# Altium schematic symbol library power_supply.SCHLIB: 21 symbols
Pins are listed as number, name and electrical type; pins without a type are passive.

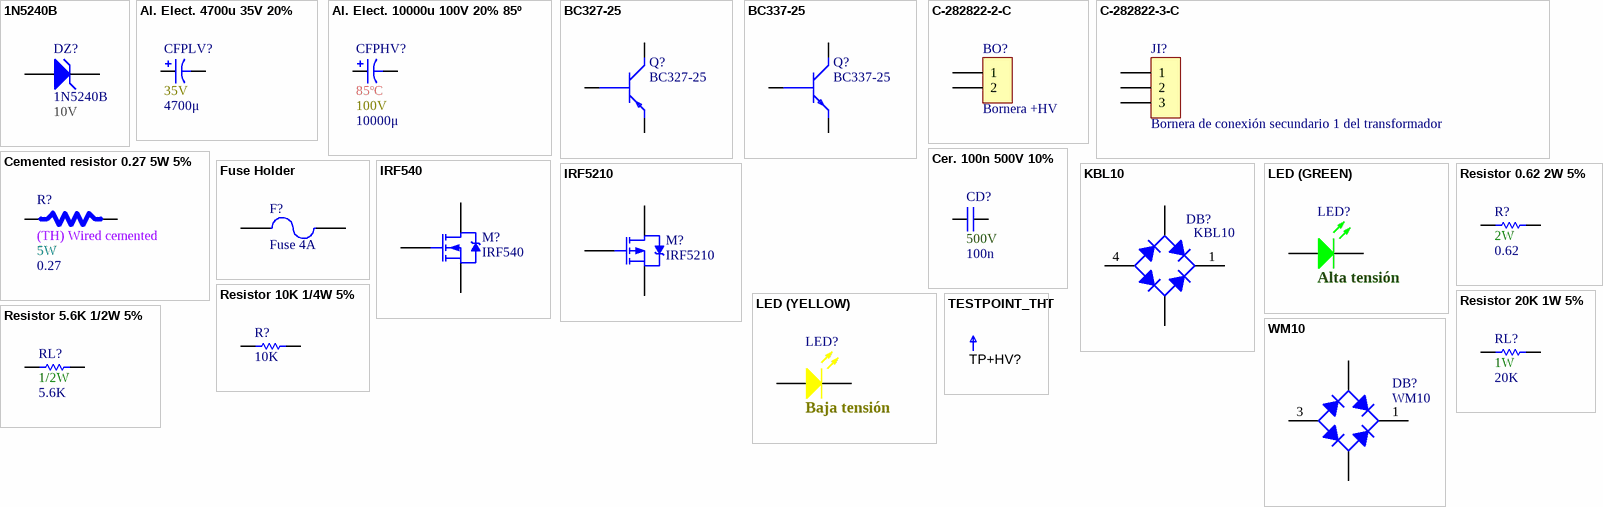
[diagram p0: symbols 1N5240B to WM10]

## 1N5240B
designator DZ?  ZV: 10V
Zener Diode, 10V, 500mW; Manufacturer: Microsemi; IZT: 20mA; Published: 8-Jun-2000; LatestRevisionDate: 17-Jul-2002; LatestRevisionNote: Re-released for DXP Platform.; DatasheetDocument: 1997; PackageReference: DO-35; Publisher: Altium Limited; Code_JEDEC: DO-204-AH; ComponentLink2Description: Datasheet; ComponentLink2URL: https://www.microsemi.com/document-portal/doc_download/5906-1n746-759a-4370-4372a-datasheet; PartNumber: 1N5240B; Power: 500mW; Supplier: *; Price: *; ComponentLink3Description: Microsemi product information; ComponentLink3URL: https://www.microsemi.com/existing-parts/parts/121290#resources
footprint DO-35-0.3mil (Diode, Axial; Body 3.8 x 1.9 mm (LxDia. max), Lead Dia. 0.53 mm (max))
pins: 1 A, 2 K

## Al. Elect. 4700u 35V 20%
designator CFPLV?  value 4700μ  Voltage: 35V  (hidden comment: Al. Elect. 4700u 35V 20%)
Aluminum Electrolytic Capacitor 4700μF 35V 20%; Application: Medium and high voltage type range from 160V-450V used as primary side input filter in power supply, which can be used in general switching power supply, PC power supply and industrial computer power supply,server power supply, AC-DC converter, motor drive circuit DC storage filter, digital audio, digital TV, communication base station, DC-AC inverter, inverter power supply and converters etc; Characteristics: Aluminum Electrolytic Capacitor; Tolerance: 20%; Supplier: *; Price: *; Power: *; Temperature: *
footprint Al. Electrolytic 18.0mmx36.0mmx7.5mm (Polarized capacitors, Aluminum Electrolytic Capacitors, 2-Leads, Body 18.0mmx36.0mmx7.5mm)
pins: 1, 2

## Al. Elect. 10000u 100V 20% 85º
designator CFPHV?  value 10000μ  Temperature: 85ºC  Voltage: 100V  (hidden comment: Al. Elect. 10000u 100V 20% 85º)
Aluminum Electrolytic Capacitor 10000μF 100V 20% 85º; Application: Medium and high voltage type range from 160V-450V used as primary side input filter in power supply, which can be used in general switching power supply, PC power supply and industrial computer power supply,server power supply, AC-DC converter, motor drive circuit DC storage filter, digital audio, digital TV, communication base station, DC-AC inverter, inverter power supply and converters etc; Characteristics: Aluminum Electrolytic Capacitor; Tolerance: 20%; Price: *; Supplier: *; Power: *
footprint Al. Electrolytic 35.0mmx50.0mmx10mm-CLEAN (Polarized capacitors, Aluminum Electrolytic Capacitors, 2-Leads, Body 35.0mmx50.0mmx10mm)
pins: 1, 2

## BC327-25
designator Q?
PNP Bipolar Transistor; Manufacturer: ON Semiconductor; PartNumber: MJE340G; VCEO: 300V; IC: 500mA; Power: 20W; ComponentLink1Description: ON semiconductor product information; ComponentLink1URL: https://www.onsemi.com/PowerSolutions/product.do?id=BC327-25; ComponentLink2Description: Datasheet; ComponentLink2URL: https://www.onsemi.com/pub/Collateral/BC327-D.PDF; Price: *; Supplier: *; VCB: 300V
footprint TO-92-1 (TO, Flat Index; 3 In-Line, Axial Leads; Body Dia. 5mm; Leads 0.55 x 0.50 mm (max))
footprint TO-92-2
pins: 1 C, 2 B, 3 E

## BC337-25
designator Q?
NPN Bipolar Transistor; Manufacturer: ON Semiconductor; PartNumber: MJE340G; VCEO: 300V; IC: 500mA; Power: 20W; ComponentLink1Description: ON semiconductor product information; ComponentLink1URL: https://www.onsemi.com/PowerSolutions/product.do?id=BC337-25; ComponentLink2Description: Datasheet; ComponentLink2URL: https://www.onsemi.com/pub/Collateral/BC337-D.PDF; Price: *; Supplier: *; VCB: 300V
footprint TO-92-1 (TO, Flat Index; 3 In-Line, Axial Leads; Body Dia. 5mm; Leads 0.55 x 0.50 mm (max))
footprint TO-92-2
pins: 1 C, 2 B, 3 E

## C-282822-2-C
designator BO?, comment Bornera +HV
TERMI-BLOK HEADER,ASSY90 2P - serie 282822 - 5.00mm; Manufacturer: TE Connectivity; partNo: C-282822-2-C; ComponentLink1 Description: Manufacturer; ComponentLink2 Description: Datasheet; NoPins: 02; Created Date: 6 MArch 2017; ComponentLink1URL: http://www.te.com/usa-en/home.html; ComponentLink2URL: http://www.te.com/usa-en/product-282822-2.html
footprint TE-C-282822-2-C-PLUGGED (5.00mm - Open Vertical PCB Header - 02p)
footprint TE-C-282822-2-C (5.00mm - Open Vertical PCB Header - 02p)
pins: 1 (power), 2

## C-282822-3-C
designator JI?, comment Bornera de conexión secundario 1 del transformador
TERMI-BLOK HEADER,ASSY90 3P - serie 282822 - 5.00mm; Manufacturer: TE Connectivity; partNo: C-282822-3-C; ComponentLink1 Description: Manufacturer; ComponentLink2 Description: Datasheet; NoPins: 03; Created Date: 6 MArch 2017; ComponentLink1URL: http://www.te.com/usa-en/home.html; ComponentLink2URL: http://www.te.com/usa-en/product-282822-3.html
footprint TE-C-282822-3-C-PLUGGED (5.00mm - Open Vertical PCB Header - 03p)
footprint TE-C-282822-3-C (5.00mm - Open Vertical PCB Header - 03p)
pins: 1, 2, 3

## Cemented resistor 0.27 5W 5%
designator R?  value 0.27  Type: (TH) Wired cemented  Power: 5W  (hidden comment: Cemented resistor 0.27 5W 5%)
Cemented resistor 0.27Ω 5% 5W; Tolerance: 5%; Supplier: *; Price: *
footprint Cemented resistor 0.27 5W 5% (Cemented resistor 0.27O 5% 5W)
footprint Cemented resistor generic 5W 5% (Cemented generic resistor 5% 5W)
pins: 1, 2

## Cer. 100n 500V 10%
designator CD?  value 100n  Voltage: 500V  (hidden comment: Cer. 100n 500V 10%)
Ceramic Capacitor 100nF 500V 10%; Application: Medium and high voltage type range from 160V-450V used as primary side input filter in power supply, which can be used in general switching power supply, PC power supply and industrial computer power supply,server power supply, AC-DC converter, motor drive circuit DC storage filter, digital audio, digital TV, communication base station, DC-AC inverter, inverter power supply and converters etc; Characteristics: Ceramic Capacitor; Tolerance: 10%; Supplier: *; Price: *; Power: *
footprint Cer. pitch 5.0mm height 5.5mm (Radial ceramic capacitor pitch 5.0mm height 5.5mm)
footprint Cer. pitch 2.5mm height 5.0mm (Radial ceramic capacitor pitch 2.5mm height 5.0mm)
footprint Cer. pitch 5.08mm height 6.00mm (Radial ceramic capacitor pitch 5.08mm height 6.0mm)
pins: 1, 2

## Fuse Holder
designator F?, comment Fuse 4A
Fuse; PackageDescription: Thru-Hole; 2 Leads; Supplier: *; Price: *; Power: *; Value: *
simulation model FUSE (Spice Subcircuit)
footprint DINKLE FUSE HOLDER 5X20 (5.00mm - Open Vertical PCB Header - 02p)
pins: 1, 2

## IRF540
designator M?
N-CHANNEL Power MOSFET 100V - 20A -  0.077Ω; Vendor: Vishay; Supersection: Semiconductors; Section: Discretes; C: Copyright (C) 2015 Accelerated Designs. All rights reserved; Power: 150; Manufacturer_Part_Number: IRF540; Family: MOSFET; Manufacturer_Name: Vishay; Copyright: Copyright (C) 2015 Accelerated Designs. All rights reserved; Value: Value; Supplier: *; Price: *
footprint TO-220-FULL (TO-220 FULL PACKAGE)
pins: 1 G, 2 D, 3 S

## IRF5210
designator M?
P-CHANNEL Power MOSFET 100V - 40A -  0.06Ω; Vendor: Infineon; Supersection: Semiconductors; Section: Discretes; C: Copyright (C) 2015 Accelerated Designs. All rights reserved; Power: 200W; Manufacturer_Part_Number: IRF5210; Family: MOSFET; Manufacturer_Name: Infineon; Copyright: Copyright (C) 2015 Accelerated Designs. All rights reserved; Value: Value; Supplier: *; Price: *
footprint TO-220-FULL (TO-220 FULL PACKAGE)
pins: 1 G, 2 D, 3 S

## KBL10
designator DB?
Single phase silicon bridge rectifier 1000V 4A; Voltage: 1000V; Current: 4A; Power: *; Price: *; Supplier: *; Value: *
footprint KBL
pins: 1 V+, 2 AC1, 3 AC2, 4 V-

## LED (GREEN)
designator LED?, comment Alta tensión
Typical LED (GREEN); Publisher: Altium Limited
footprint LED_5MM_GREEN (LED 5mm GREEN)
footprint LED_3MM_GREEN (LED 3mm GREEN)
footprint 0805_LED
footprint 1206_LED
footprint SQ_LED
pins: A, K

## LED (YELLOW)
designator LED?, comment Baja tensión
Typical LED (YELLOW); Publisher: Altium Limited
footprint LED_5MM_YELLOW (LED 5mm YELLOW)
footprint LED_3MM_YELLOW (LED 3mm YELLOW)
footprint 0805_LED
footprint 1206_LED
footprint SQ_LED
pins: A, K

## Resistor 0.62 2W 5%
designator R?  value 0.62  Power: 2W  (hidden comment: Resistor 0.62 2W 5%)
Resistor 0.62Ω 2W 5%; Tolerance: 5%; Price: *; Supplier: *; Type: (TH) Carbon film
footprint AXIAL-0.6-E24-2W-0.62 (Axial Device, Thru-Hole; 2 Leads; 0.6 in Pin Spacing)
pins: 1, 2

## Resistor 5.6K 1/2W 5%
designator RL?  value 5.6K  Power: 1/2W  (hidden comment: Resistor 5.6K 1/2W 5%)
Resistor 5.6KΩ 1/2W 5%; Tolerance: 5%; Price: *; Type: (TH) Metal film; Supplier: *
footprint AXIAL-0.4-GEN-0_25W (Axial Device, Thru-Hole; 2 Leads; 0.4 in Pin Spacing)
footprint AXIAL-0.3-GEN-0_25W (Axial Device, Thru-Hole; 2 Leads; 0.3 in Pin Spacing)
footprint AXIAL-0.5-GEN-0_25W (Axial Device, Thru-Hole; 2 Leads; 0.5 in Pin Spacing)
footprint AXIAL-0.6-GEN-0_25W (Axial Device, Thru-Hole; 2 Leads; 0.6 in Pin Spacing)
footprint AXIAL-0.5-E24-0_5W-5.6K (Axial Device, Thru-Hole; 2 Leads; 0.5 in Pin Spacing)
pins: 1, 2

## Resistor 10K 1/4W 5%
designator R?  value 10K  (hidden comment: Resistor 10K 1/4W 5%)
Resistor 10KΩ 1/4W 5%; Power: 1/4W; Tolerance: 5%; Price: *; Supplier: *; Type: (TH) Metal film
footprint AXIAL-0.4-E24-0_25W-10k (Axial Device, Thru-Hole; 2 Leads; 0.4 in Pin Spacing)
footprint AXIAL-0.4-GEN-0_25W (Axial Device, Thru-Hole; 2 Leads; 0.4 in Pin Spacing)
footprint AXIAL-0.3-GEN-0_25W (Axial Device, Thru-Hole; 2 Leads; 0.3 in Pin Spacing)
footprint AXIAL-0.5-GEN-0_25W (Axial Device, Thru-Hole; 2 Leads; 0.5 in Pin Spacing)
footprint AXIAL-0.6-GEN-0_25W (Axial Device, Thru-Hole; 2 Leads; 0.6 in Pin Spacing)
pins: 1, 2

## Resistor 20K 1W 5%
designator RL?  value 20K  Power: 1W  (hidden comment: Resistor 20K 1W 5%)
Resistor 20KΩ 1W 5%; Tolerance: 5%; Price: *; Supplier: *; Type: (TH) Carbon film
footprint AXIAL-0.6-E24-1W-20K (Axial Device, Thru-Hole; 2 Leads; 0.6 in Pin Spacing)
pins: 1, 2

## TESTPOINT_THT
designator TP+HV?  (value not drawn)
Test Point PCB mount Multi-purpose Black; Manufacturer 1: Keystone Electronics; Manufacturer Part Number 1: 5014; PBL Part Number: 3100-xxx; Description 1: TEST POINT PC MULTI PURPOSE YEL; Supplier 1: Digi-Key; Supplier Part Number 1: 5014K-ND; Mounting Type: 0.063" (1.600mm) Hole Diameter; Material: Base, Nylon 46, UL 94V-0
footprint TP-THT-MULTI (Thru-hole test point loop)
pins: 1

## WM10
designator DB?
Single phase silicon bridge rectifier 1000V 1.5A; Voltage: 1000V; Current: 1.5A; Supplier: *; Value: *; Power: *; Price: *
footprint WOM-4
pins: 1 V+, 2 AC1, 3 V-, 4 AC2